# EAGLE library part TPS84259_RKG_41 (library SensorCape)
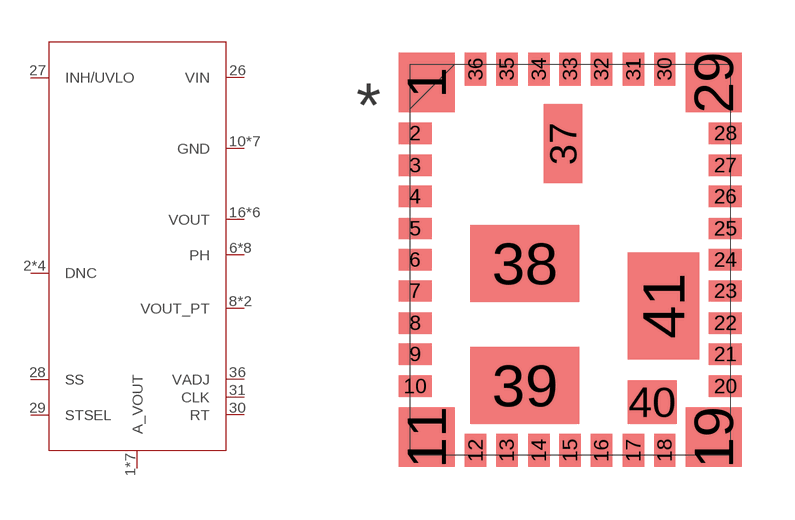
[diagram p10: symbol with the pads of RKG41; footprint RKG41]

Designator prefix -

## TPS84259_RKG_41  [RKG41]
1  A_VOUT  pas
2  DNC  pas
3  DNC  pas
4  A_VOUT  pas
5  A_VOUT  pas
6  PH  pas
7  PH  pas
8  VOUT_PT  pas
9  VOUT_PT  pas
10  GND  pas
11  GND  pas
12  GND  pas
13  GND  pas
14  GND  pas
15  GND  pas
16  VOUT  pas
17  VOUT  pas
18  VOUT  pas
19  VOUT  pas
20  VOUT  pas
21  PH  pas
22  PH  pas
23  PH  pas
24  PH  pas
25  DNC  pas
26  VIN  pas
27  INH/UVLO  pas
28  SS  pas
29  STSEL  pas
30  RT  pas
31  CLK  pas
32  A_VOUT  pas
33  A_VOUT  pas
34  A_VOUT  pas
35  DNC  pas
36  VADJ  pas
37  A_VOUT  pas
38  PH  pas
39  GND  pas
40  VOUT  pas
41  PH  pas

## Footprint RKG41 (pad centres in mm)
smd 1.6 x 1.702: 1 0,0; 11 0,-10.109; 19 8.179,-10.109; 29 8.179,0
smd 0.94 x 0.61: 2 -0.33,-1.448; 3 -0.33,-2.362; 4 -0.33,-3.251; 5 -0.33,-4.166; 6 -0.33,-5.055; 7 -0.33,-5.944; 8 -0.33,-6.858; 9 -0.33,-7.747; 10 -0.33,-8.661; 20 8.509,-8.661; 21 8.509,-7.747; 22 8.509,-6.858; 23 8.509,-5.944; 24 8.509,-5.055; 25 8.509,-4.166; 26 8.509,-3.251; 27 8.509,-2.362; 28 8.509,-1.448
smd 0.61 x 0.94: 12 1.397,-10.49; 13 2.286,-10.49; 14 3.2,-10.49; 15 4.089,-10.49; 16 4.978,-10.49; 17 5.893,-10.49; 18 6.782,-10.49; 30 6.782,0.381; 31 5.893,0.381; 32 4.978,0.381; 33 4.089,0.381; 34 3.2,0.381; 35 2.286,0.381; 36 1.397,0.381
smd 1.1 x 2.25: 37 3.88,-1.75
smd 3.1 x 2.2: 38 2.8,-5.16; 39 2.8,-8.64
smd 1.4 x 1.24: 40 6.43,-9.11
smd 2.04 x 3.05: 41 6.75,-6.37